# Altium footprint library SO08-E3.PcbLib: 1 footprints
Each footprint in its own frame and in the unit in brackets; x right, y up, seen from the top. Pads: shape width x height; smd on the part's side, far side on the other; paste and mask are expansions set on the pad; w line width, h text height; cw(c..) or ccw(c..) is an arc to the next point about the centre after c.
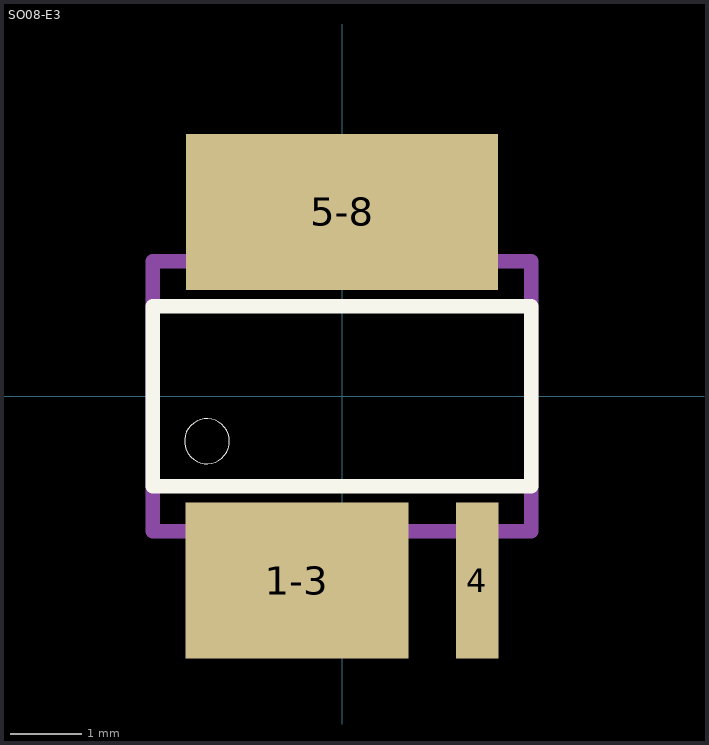
[diagram p0: the footprint, top view; thin cyan lines are the x and y axes]

## SO08-E3 [mm]
pads (3):
  rect 3.15x2.2 smd mask+0: 1-3(-0.635,-2.6)
  rect 0.6x2.2 smd: 4(1.905,-2.6)
  rect 4.4x2.2 smd mask+0: 5-8(0,2.6)
Top Overlay:
  circle w0: c-1.905,-0.635 r0.318
  lines w0.203: -2.667,-1.27 2.667,-1.27 2.667,1.27 -2.667,1.27 -2.667,-1.27
Top Solder:
  region: 1.05,-3.807 0.25,-3.807 0.25,-1.4 1.05,-1.4
  region: -0.25,-3.803 -1.051,-3.803 -1.051,-1.4 -0.25,-1.4
  region: -1.5,-3.801 -2.301,-3.801 -2.301,-1.4 -1.5,-1.4
  region: -1.5,1.402 -2.303,1.402 -2.303,3.8 -1.5,3.8
  region: -0.25,1.403 -1.052,1.403 -1.052,3.8 -0.25,3.8
  region: 1.05,1.402 0.25,1.402 0.25,3.8 1.05,3.8
  region: 2.3,1.402 1.502,1.402 1.502,3.8 2.3,3.8
Mechanical 13:
  region: -1.66,-3.1 -2.15,-3.1 -2.15,-2 -1.66,-2
  region: -0.39,-3.102 -0.881,-3.102 -0.881,-2 -0.39,-2
  region: 0.88,-3.106 0.391,-3.106 0.391,-2 0.88,-2
  region: 2.15,-3.106 1.663,-3.106 1.663,-2 2.15,-2
  region: 2.15,2.001 1.661,2.001 1.661,3.1 2.15,3.1
  region: 0.88,2.004 0.391,2.004 0.391,3.1 0.88,3.1
  region: -0.39,2.002 -0.881,2.002 -0.881,3.1 -0.39,3.1
  region: -1.66,2.001 -2.151,2.001 -2.151,3.1 -1.66,3.1
  lines w0.203: -2.667,-1.905 2.667,-1.905 2.667,1.905 -2.667,1.905 -2.667,-1.905